# EAGLE library part PCA9555 (library deiring-components)
IO Expander
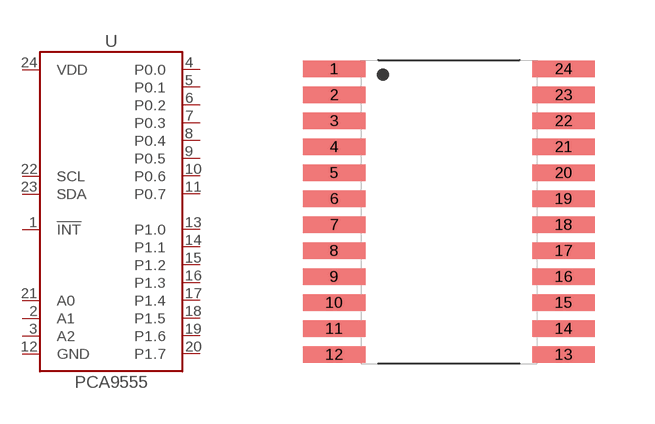
[diagram p13: symbol with the pads of TSSOP-24; footprint TSSOP-24]

Designator prefix U

## PCA9555-TSSOP-24 (LCSC: C2652295; MF: NXP Semicon; MPN: PCA9555APW,118; VALUE: PCA9555)  [TSSOP-24]
1  !INT  in
2  A1  in
3  A2  in
4  P0.0
5  P0.1
6  P0.2
7  P0.3
8  P0.4
9  P0.5
10  P0.6
11  P0.7
12  GND  pwr
13  P1.0
14  P1.1
15  P1.2
16  P1.3
17  P1.4
18  P1.5
19  P1.6
20  P1.7
21  A0  in
22  SCL  in
23  SDA
24  VDD  pwr

## Footprint TSSOP-24 (pad centres in mm)
smd 1.57 x 0.41: 1 -2.87,3.575; 2 -2.87,2.925; 3 -2.87,2.275; 4 -2.87,1.625; 5 -2.87,0.975; 6 -2.87,0.325; 7 -2.87,-0.325; 8 -2.87,-0.975; 9 -2.87,-1.625; 10 -2.87,-2.275; 11 -2.87,-2.925; 12 -2.87,-3.575; 13 2.87,-3.575; 14 2.87,-2.925; 15 2.87,-2.275; 16 2.87,-1.625; 17 2.87,-0.975; 18 2.87,-0.325; 19 2.87,0.325; 20 2.87,0.975; 21 2.87,1.625; 22 2.87,2.275; 23 2.87,2.925; 24 2.87,3.575